# Altium integrated library OneFader.IntLib: 9 symbols
Pins are listed as number, name and electrical type; pins without a type are passive.

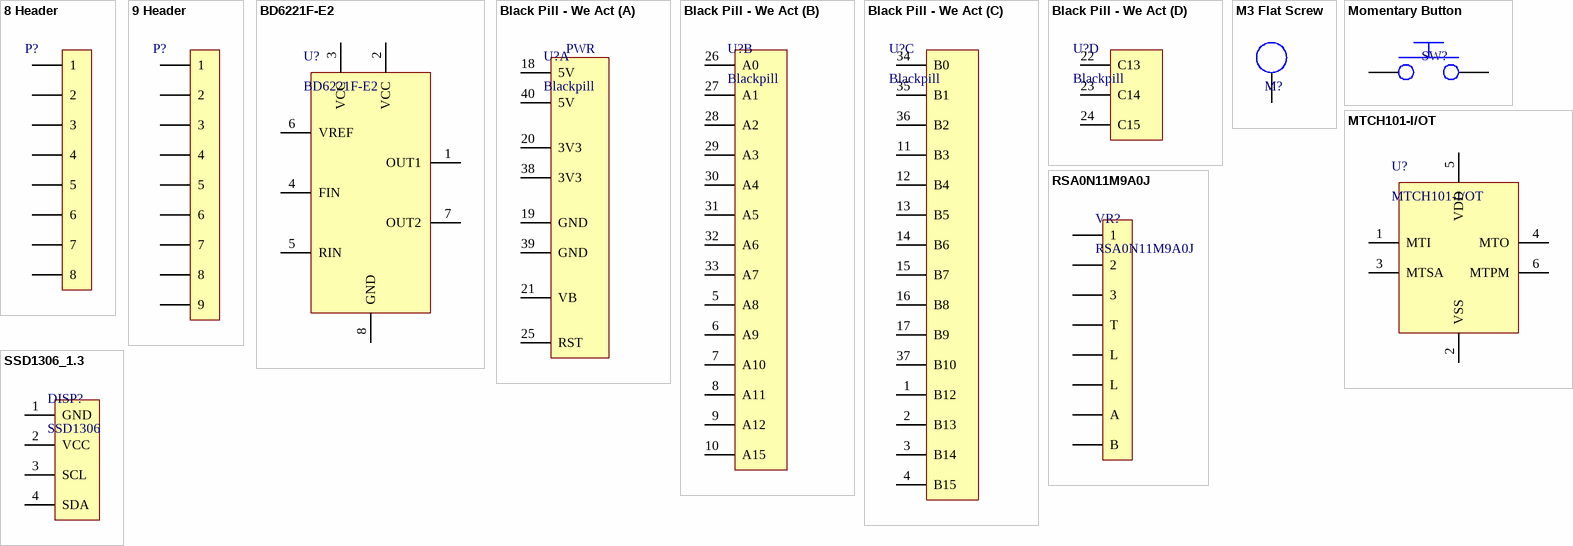
[diagram p0: symbols 8 Header to SSD1306_1.3]

## 8 Header
designator P?  (value not drawn)
footprint 8 Header
pins: 1, 2, 3, 4, 5, 6, 7, 8

## 9 Header
designator P?  (value not drawn)
footprint 9 Header
pins: 1, 2, 3, 4, 5, 6, 7, 8, 9

## BD6221F-E2
designator U?
DC Brush Motor Driver, 6 to 18 V, 1 A, -40 to 85 degC, 8-Pin SOP, RoHS, Tape and Reel; Manufacturer: ROHM Semiconductor; Supply Voltage: 6 to 15 V; RON@IOUT: 0.5 A=1.5 Ohm Typ.; Output Current: 1 A Max.; ComponentLink1URL: http://www.rohm.com/web/global/; Mounting Technology: Surface Mount; DatasheetVersion: Rev. 003; ComponentLink2Description: Datasheet; RoHS: TRUE; ComponentLink3URL: http://rohmfs.rohm.com/en/products/databook/package/spec/ic/sop-1-2-e.pdf; ComponentLink1Description: Manufacturer URL; PartNumber: BD6221F-E2; PackageDescription: 8-Pin Small Outline Package, Body 5 x 4.4 mm, Pitch 1.27 mm; ComponentLink3Description: Package Specification; ComponentLink2URL: http://rohmfs.rohm.com/en/products/databook/datasheet/ic/motor/dc/bd622x-e.pdf; Temperature Range: -40 to 85 degC; PackageVersion: Rev. A; Packing: Tape and Reel
footprint SOP127P620X160-8N (SOP, 8-Leads, Body 5.2x4.6mm, Pitch 1.27mm)
pins: 1 OUT1 (hiz) "Driver output", 2 VCC (power) "Power supply", 3 VCC (power) "Power supply", 4 FIN "Control input (forward)", 5 RIN "Control input (reverse)", 6 VREF "Duty setting pin", 7 OUT2 (hiz) "Driver output", 8 GND (power) "Ground"

## Black Pill - We Act
designator U?, comment Blackpill
footprint BlackPill - WeAct
part A pins: 18 5V, 19 GND, 20 3V3, 21 VB, 25 RST, 38 3V3, 39 GND, 40 5V
part B pins: 5 A8, 6 A9, 7 A10, 8 A11, 9 A12, 10 A15, 26 A0, 27 A1, 28 A2, 29 A3, 30 A4, 31 A5, 32 A6, 33 A7
part C pins: 1 B12, 2 B13, 3 B14, 4 B15, 11 B3, 12 B4, 13 B5, 14 B6, 15 B7, 16 B8, 17 B9, 34 B0, 35 B1, 36 B2, 37 B10
part D pins: 22 C13, 23 C14, 24 C15
part A text: PWR

## M3 Flat Screw
designator M?  (value not drawn)
footprint M3 Screw
pins: 1

## Momentary Button
designator SW?  (value not drawn)
footprint TD-19XA (TACT SWITCH 6.1*3.7*2.5MM SMD SPST-NO)
footprint TS1127 (TACT SWITCH 6.2*2.5 THROUGH HOLE SPST-NO RED BUTTON)
footprint Tactile Button 6*6*5mm
pins: 1, 2

## MTCH101-I/OT
designator U?
Single Channel Proximity Detector 6-Pin SOT-23 T/R
footprint SOT95P270X145-6N (SOT23, 6-Leads, Body 2,90x2,70mm, Pitch 0,95mm, IPC Medium Density)
pins: 1 MTI, 2 VSS, 3 MTSA, 4 MTO, 5 VDD, 6 MTPM

## RSA0N11M9A0J
designator VR?
Motorized 10k Linear Fader
footprint RSA0N11M9A0J
pins: 1, 2, 3, A, B, L1 L, L2 L, T

## SSD1306_1.3
designator DISP?, comment SSD1306
SSD1306 128*64 1.3Inch I2C OLED Module
footprint SSD1306_1.3
pins: 1 GND, 2 VCC, 3 SCL, 4 SDA